# EAGLE library part DSPIC30F6012-30I/PF (library Microchip_By_element14_Batch_1)
IC, DSC
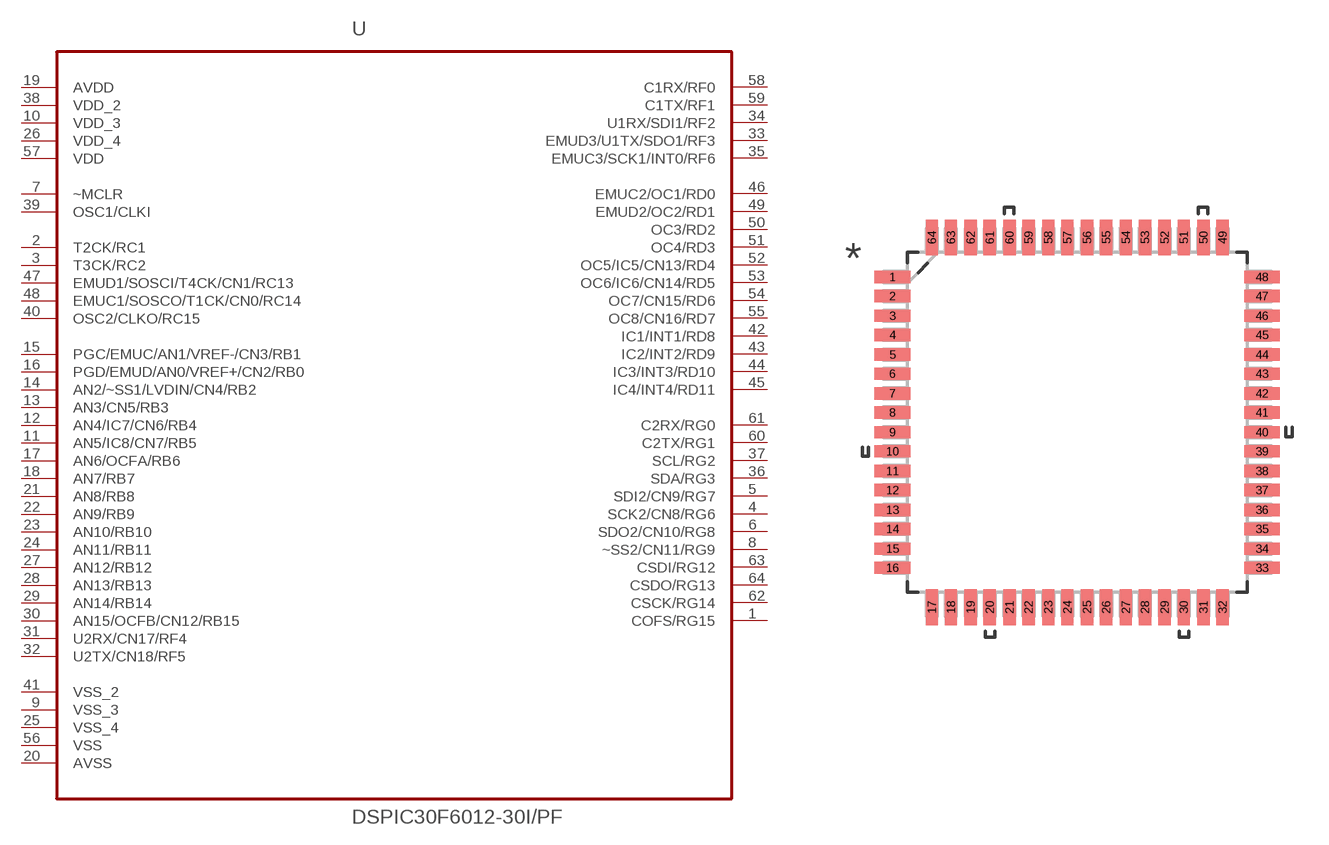
[diagram p319: symbol with the pads of QFP80P1600X1600X120-64N; footprint QFP80P1600X1600X120-64N]

Designator prefix -

## DSPIC30F6012-30I/PF (DESCRIPTION: IC, DSC; MPN: DSPIC30F6012-30I/PF; OC_FARNELL: 1137348; OC_NEWARK: 88H5570; PACKAGE: QFP-64; SUPPLIER: Microchip)  [QFP80P1600X1600X120-64N]
1  COFS/RG15
2  T2CK/RC1
3  T3CK/RC2
4  SCK2/CN8/RG6
5  SDI2/CN9/RG7
6  SDO2/CN10/RG8
7  ~MCLR  in
8  ~SS2/CN11/RG9
9  VSS_3  pas
10  VDD_3  pwr
11  AN5/IC8/CN7/RB5
12  AN4/IC7/CN6/RB4
13  AN3/CN5/RB3
14  AN2/~SS1/LVDIN/CN4/RB2
15  PGC/EMUC/AN1/VREF-/CN3/RB1
16  PGD/EMUD/AN0/VREF+/CN2/RB0
17  AN6/OCFA/RB6
18  AN7/RB7
19  AVDD  pwr
20  AVSS  pas
21  AN8/RB8
22  AN9/RB9
23  AN10/RB10
24  AN11/RB11
25  VSS_4  pas
26  VDD_4  pwr
27  AN12/RB12
28  AN13/RB13
29  AN14/RB14
30  AN15/OCFB/CN12/RB15
31  U2RX/CN17/RF4
32  U2TX/CN18/RF5
33  EMUD3/U1TX/SDO1/RF3
34  U1RX/SDI1/RF2
35  EMUC3/SCK1/INT0/RF6
36  SDA/RG3
37  SCL/RG2
38  VDD_2  pwr
39  OSC1/CLKI  in
40  OSC2/CLKO/RC15
41  VSS_2  pas
42  IC1/INT1/RD8
43  IC2/INT2/RD9
44  IC3/INT3/RD10
45  IC4/INT4/RD11
46  EMUC2/OC1/RD0
47  EMUD1/SOSCI/T4CK/CN1/RC13
48  EMUC1/SOSCO/T1CK/CN0/RC14
49  EMUD2/OC2/RD1
50  OC3/RD2
51  OC4/RD3
52  OC5/IC5/CN13/RD4
53  OC6/IC6/CN14/RD5
54  OC7/CN15/RD6
55  OC8/CN16/RD7
56  VSS  pas
57  VDD  pwr
58  C1RX/RF0
59  C1TX/RF1
60  C2TX/RG1
61  C2RX/RG0
62  CSCK/RG14
63  CSDI/RG12
64  CSDO/RG13

## Footprint QFP80P1600X1600X120-64N (pad centres in mm)
smd 1.473 x 0.508: 1 -7.62,5.994; 2 -7.62,5.207; 3 -7.62,4.394; 4 -7.62,3.607; 5 -7.62,2.794; 6 -7.62,2.007; 7 -7.62,1.194; 8 -7.62,0.406; 9 -7.62,-0.406; 10 -7.62,-1.194; 11 -7.62,-2.007; 12 -7.62,-2.794; 13 -7.62,-3.607; 14 -7.62,-4.394; 15 -7.62,-5.207; 16 -7.62,-5.994; 33 7.62,-5.994; 34 7.62,-5.207; 35 7.62,-4.394; 36 7.62,-3.607; 37 7.62,-2.794; 38 7.62,-2.007; 39 7.62,-1.194; 40 7.62,-0.406; 41 7.62,0.406; 42 7.62,1.194; 43 7.62,2.007; 44 7.62,2.794; 45 7.62,3.607; 46 7.62,4.394; 47 7.62,5.207; 48 7.62,5.994
smd 0.508 x 1.473: 17 -5.994,-7.62; 18 -5.207,-7.62; 19 -4.394,-7.62; 20 -3.607,-7.62; 21 -2.794,-7.62; 22 -2.007,-7.62; 23 -1.194,-7.62; 24 -0.406,-7.62; 25 0.406,-7.62; 26 1.194,-7.62; 27 2.007,-7.62; 28 2.794,-7.62; 29 3.607,-7.62; 30 4.394,-7.62; 31 5.207,-7.62; 32 5.994,-7.62; 49 5.994,7.62; 50 5.207,7.62; 51 4.394,7.62; 52 3.607,7.62; 53 2.794,7.62; 54 2.007,7.62; 55 1.194,7.62; 56 0.406,7.62; 57 -0.406,7.62; 58 -1.194,7.62; 59 -2.007,7.62; 60 -2.794,7.62; 61 -3.607,7.62; 62 -4.394,7.62; 63 -5.207,7.62; 64 -5.994,7.62